# EAGLE library part PINHEAD-10 (library chuong)
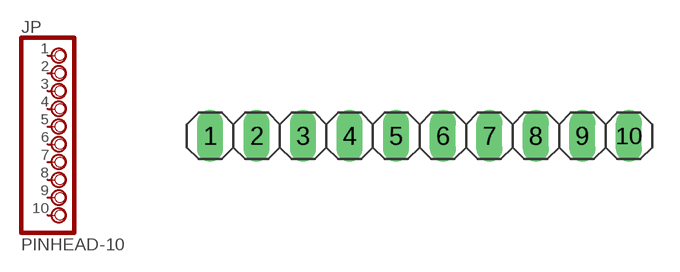
[diagram p18: symbol with the pads of PINHEAD-10; footprint PINHEAD-10]

Designator prefix JP

## PINHEAD-10  [PINHEAD-10]
1  1  pas
2  2  pas
3  3  pas
4  4  pas
5  5  pas
6  6  pas
7  7  pas
8  8  pas
9  9  pas
10  10  pas

## Footprint PINHEAD-10 (pad centres in mm)
drill 0.813 pad 1.422 long: 1 -10.16,0; 2 -7.62,0; 3 -5.08,0; 4 -2.54,0; 5 0,0; 6 2.54,0; 7 5.08,0; 8 7.62,0; 9 10.16,0; 10 12.7,0